# Altium footprint library top_pcblib.PcbLib: 29 footprints (part 2 of 2)
Each footprint in its own frame and in the unit in brackets; x right, y up, seen from the top. Pads: shape width x height; smd on the part's side, far side on the other; paste and mask are expansions set on the pad; w line width, h text height; cw(c..) or ccw(c..) is an arc to the next point about the centre after c.
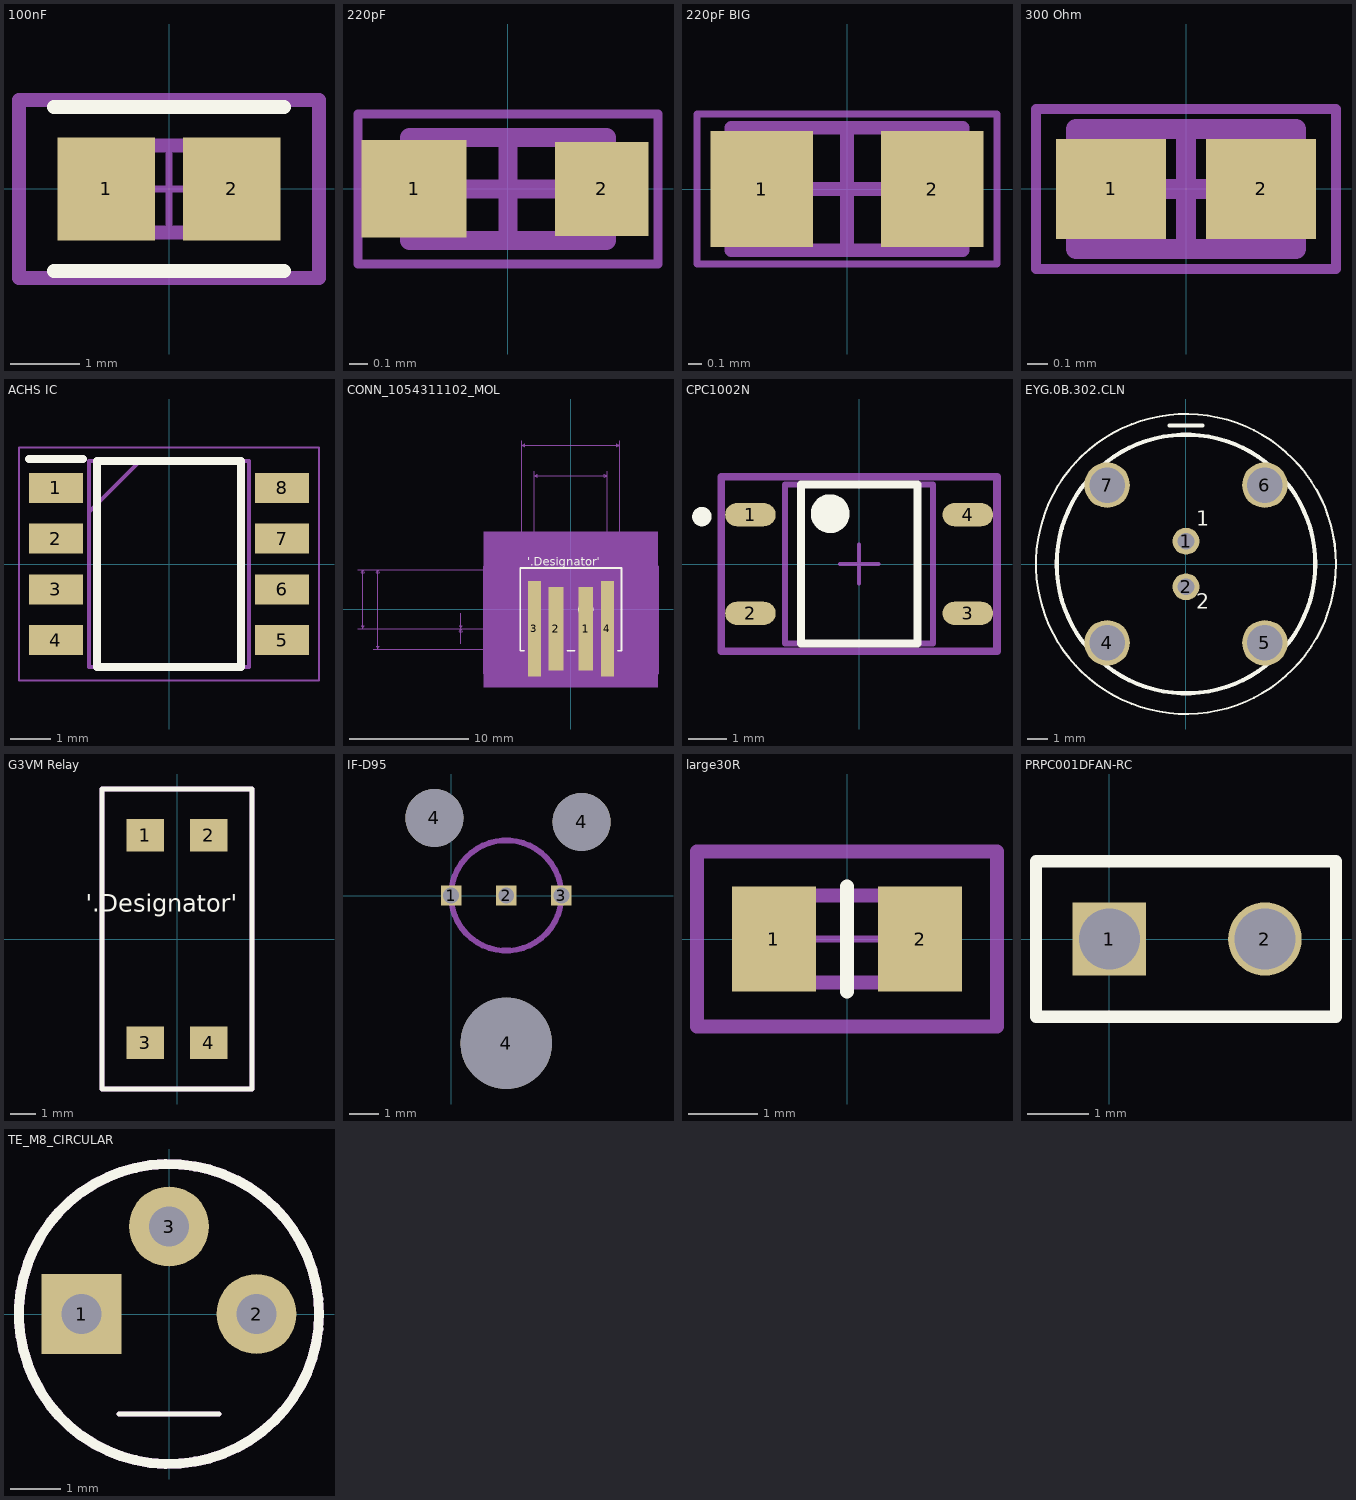
[diagram p1: the footprints below, top view; thin cyan lines are the x and y axes]

## 100nF [mil]
pads (2):
  rect 55x58 smd paste+0 mask+0: 1(-35.46,0) 2(35.46,0)
Top Overlay:
  lines w7.87: -65.08,-46.38 65.08,-46.38 ; -65.08,46.38 65.08,46.38
Mechanical 5:
  lines w7.87: -84.77,-50.32 -84.77,50.32 84.77,50.32 84.77,-50.32 -84.77,-50.32
  text ".Designator" at 0,7.39 h39.37
Mechanical 13:
  lines w7.87: -39.37,-24.61 -39.37,24.61 39.37,24.61 39.37,-24.61 -39.37,-24.61
Mechanical 15:
  lines w7.87: -84.77,-50.32 -84.77,50.32 84.77,50.32 84.77,-50.32 -84.77,-50.32
Mechanical 16:
  lines w3.94: -19.68,0 19.68,0 ; 0,-19.68 0,19.68
3D body "Cap_KEMET_C0805C472J3HAC_eec.STEP": height 10, standoff 0, extent -84.77,-50.32 84.77,50.32

## 220pF [mm]
pads (2):
  rect 0.56x0.52 smd: 1(-0.5,0)
  rect 0.5x0.5 smd: 2(0.5,0)
Mechanical 13:
  lines w0.1: -0.525,-0.275 -0.525,0.275 0.525,0.275 0.525,-0.275 -0.525,-0.275
Mechanical 15:
  lines w0.05: -0.8,-0.4 -0.8,0.4 0.8,0.4 0.8,-0.4 -0.8,-0.4
  lines w0.1: -0.275,0 0.275,0 ; 0,-0.275 0,0.275
3D body: height 0.55, standoff 0, extent -0.275,-0.275 0.275,0.275
3D body: height 0.55, standoff 0, extent -0.525,-0.275 -0.275,0.275
3D body: height 0.55, standoff 0, extent 0.275,-0.275 0.525,0.275

## 220pF BIG [mm]
pads (2):
  rect 0.75x0.85 smd: 1(-0.625,0) 2(0.625,0)
Mechanical 13:
  lines w0.1: -0.85,-0.45 0.85,-0.45 0.85,0.45 -0.85,0.45 -0.85,-0.45
Mechanical 15:
  lines w0.05: -1.1,-0.55 1.1,-0.55 1.1,0.55 -1.1,0.55 -1.1,-0.55
  lines w0.1: -0.45,0 0.45,0 ; 0,-0.45 0,0.45
3D body "CAPC1608X09L.step": height 0.9, standoff 0, extent -0.85,-0.45 0.85,0.45

## 300 Ohm [mm]
pads (2):
  rect 0.55x0.5 smd: 1(-0.375,0) 2(0.375,0)
Mechanical 13:
  lines w0.1: -0.55,-0.3 0.55,-0.3 0.55,0.3 -0.55,0.3 -0.55,-0.3
Mechanical 15:
  lines w0.05: -0.75,-0.4 0.75,-0.4 0.75,0.4 -0.75,0.4 -0.75,-0.4
  lines w0.1: -0.3,0 0.3,0 ; 0,-0.3 0,0.3
3D body: height 0.4, standoff 0, extent 0.3,-0.3 0.55,0.3
3D body: height 0.4, standoff 0, extent -0.55,-0.3 -0.3,0.3
3D body: height 0.4, standoff 0, extent -0.3,-0.3 0.3,0.3

## ACHS IC [mm]
pads (8):
  rect 1.35x0.75 smd: 1(-2.825,1.905) 2(-2.825,0.635) 3(-2.825,-0.635) 4(-2.825,-1.905) 5(2.825,-1.905) 6(2.825,-0.635) 7(2.825,0.635) 8(2.825,1.905)
Top Overlay:
  lines w0.2: -3.5,2.63 -2.15,2.63 ; -1.8,-2.572 -1.8,2.572 1.8,2.572 1.8,-2.572 -1.8,-2.572
Mechanical 13:
  lines w0.1: -2,1.302 -0.73,2.572 ; -2,-2.572 -2,2.572 2,2.572 2,-2.572 -2,-2.572
Mechanical 15:
  lines w0.05: -3.75,-2.917 -3.75,2.917 3.75,2.917 3.75,-2.917 -3.75,-2.917

## CONN_1054311102_MOL [mil]
pads (4):
  rect 49x276 smd paste+0 mask+0: 1(49.21,-63.38) 2(-49.21,-63.38)
  rect 43x315 smd: 3(-120.28,-63.38) 4(120.28,-63.38)
Top Overlay:
  circle w20: c49.21,0 r15
  lines w6: -154.88,-136.5 -167,-136.5 -167,136.5 167,136.5 167,-136.5 154.88,-136.5 ; -11.61,-136.5 11.61,-136.5
  text "'.Designator'" at -143.7,145.01 h27.56
Bottom Overlay:
  circle w20: c49.21,0 r15
Mechanical 5:
  region: -287,256.5 287,256.5 287,-256.5 -287,-256.5
Mechanical 7:
  lines w1: -702.78,-63.38 0,-63.38 -377.78,-63.38 120.28,-63.38 120.28,456.5 ; -702.78,131.5 -162,131.5 ; -652.78,-131.5 -162,-131.5 ; -652.78,131.5 -162,131.5 ; -362.78,-113.38 -362.78,-63.38 ; -362.78,-13.38 -362.78,-63.38 ; -162,556.5 -162,131.5 ; -120.28,-63.38 -120.28,456.5 ; -99.21,216.5 -49.21,216.5 ; -49.21,-63.38 -49.21,231.5 ; 49.21,231.5 49.21,-63.38 ; 99.21,216.5 49.21,216.5 ; 162,131.5 162,556.5 ; 262,-113.38 262,-63.38 ; 262,-13.38 262,-63.38 ; -687.78,-63.38 -682.78,-53.38 -692.78,-53.38 -687.78,-63.38 ; -687.78,-63.38 -687.78,131.5 ; -687.78,131.5 -682.78,121.5 -692.78,121.5 -687.78,131.5 ; -637.78,-131.5 -632.78,-121.5 -642.78,-121.5 -637.78,-131.5 ; -637.78,-131.5 -637.78,131.5 ; -637.78,131.5 -632.78,121.5 -642.78,121.5 -637.78,131.5 ; -362.78,-63.38 -357.78,-73.38 -367.78,-73.38 -362.78,-63.38 ; -362.78,-63.38 -357.78,-53.38 -367.78,-53.38 -362.78,-63.38 ; -162,541.5 -152,536.5 -152,546.5 -162,541.5 ; -162,541.5 162,541.5 ; -120.28,441.5 -110.28,436.5 -110.28,446.5 -120.28,441.5 ; -120.28,441.5 120.28,441.5 ; -49.21,216.5 -59.21,211.5 -59.21,221.5 -49.21,216.5 ; 49.21,-63.38 277,-63.38 49.21,-63.38 ; 49.21,216.5 59.21,211.5 59.21,221.5 49.21,216.5 ; 120.28,441.5 110.28,436.5 110.28,446.5 120.28,441.5 ; 162,541.5 152,536.5 152,546.5 162,541.5 ; 262,-63.38 267,-73.38 257,-73.38 262,-63.38 ; 262,-63.38 267,-53.38 257,-53.38 262,-63.38
  text "0.263in/6.68mm" at -832.78,-12.5 h25
  text "0.195in/4.95mm" at -882.78,21.56 h25
  text "0in/0mm" at -470.28,-75.88 h25
  text "0in/0mm" at 282,-75.88 h25
  text "0.324in/8.23mm" at -87.5,561.5 h25
  text "0.241in/6.11mm" at -87.5,461.5 h25
  text "0.098in/2.5mm" at -7.43,236.5 h25
  text "Alt Padstyle 2: b229_152h76" at -337.5,-886.38 h50
  text "Alt Padstyle 1: b152_229h76" at -337.5,-811.38 h50
  text "Right Mtg Padstyle: c152h76" at -337.5,-736.38 h50
  text "Left Mtg Padstyle: c152h76" at -325,-661.38 h50
  text "3rd Mtg Padstyle: c178h178" at -325,-586.38 h50
  text "2nd Mtg Padstyle: c178h178" at -325,-511.38 h50
  text "1st Mtg Padstyle: r800_109" at -325,-436.38 h50
  text "Default Padstyle: r124_701" at -325,-361.38 h50
Mechanical 13:
  circle w20: c49.21,11.62 r15
  lines w1: -162,-131.5 -162,131.5 162,131.5 162,-131.5 -162,-131.5
Mechanical 15:
  region: 287.78,141.5 -287.78,141.5 -287.78,-211.38 287.78,-211.38
  lines w6: -287.78,-211.38 287.78,-211.38 287.78,141.5 -287.78,141.5 -287.78,-211.38
Mechanical 29:
  text "'.Designator'" at -143.7,145.01 h27.56
3D body: height 10, standoff 0, extent 0,0 10,10
3D body "1054311102.stp": height 439.87, standoff 0.5, extent -162.01,-253.54 162.01,71.28

## CPC1002N [mm] "Solid-State Relay"
pads (4):
  oval 1.3x0.6 smd paste+0 mask+0: 1(-2.8,1.27) 2(-2.8,-1.27) 3(2.8,-1.27) 4(2.8,1.27)
Top Overlay:
  circle w0.25: c-4.05,1.22 r0.125
  circle w0.5: c-0.746,1.295 r0.25
  lines w0.2: -1.5,-2.044 -1.5,2.044 1.5,2.044 1.5,-2.044 -1.5,-2.044
Mechanical 10:
  lines w0.2: -3.55,-2.246 -3.55,2.246 3.55,2.246 3.55,-2.246 -3.55,-2.246
  text ".Designator" at 0,0 h1
Mechanical 12:
  lines w0.15: -1.905,-2.044 -1.905,2.044 1.905,2.044 1.905,-2.044 -1.905,-2.044
Mechanical 15:
  lines w0.1: -0.5,0 0.5,0 ; 0,-0.5 0,0.5
  lines w0.2: -3.55,-2.246 -3.55,2.246 3.55,2.246 3.55,-2.246 -3.55,-2.246
3D body "3dmodel.step": height 0.25, standoff 0, extent -3.55,-2.246 3.55,2.246

## EYG.0B.302.CLN [mil] "Socket, Female, Body 9mm dia. Height 15 mm, Through hole"
pads (6):
  round 51.18 hole 31.5: 1(0.01,43.32) 2(0.01,-43.3)
  round 86.61 hole 66.93: 4(-149.99,-149.99) 5(150.01,-149.99) 6(150.01,150.01) 7(-149.99,150.01)
Top Overlay:
  circle w3.94: c0.01,0.01 r285.43
  circle w7.87: c0.01,0.01 r246.06
  lines w7.87: -31.49,263.79 31.51,263.79
  text "2" at 19.7,-94.48 h48.83
  text "1" at 19.7,63 h48.83
3D body "EYG.0B.306.CLN.stp": height 642.27, standoff -64.54, extent -245.93,-246.06 245.94,246.07

## G3VM Relay [mm]
pads (4):
  rect 1.5x1.3 smd: 1(-1.27,4.15) 2(1.27,4.15) 3(-1.27,-4.15) 4(1.27,-4.15)
Top Overlay:
  lines w0.2: -3,-6 -3,6 3,6 3,-6 -3,-6
  text "'.Designator'" at -3.65,1.083 h0.7
Mechanical 29:
  lines w0.2: -3,-6 -3,6 3,6 3,-6 -3,-6
  text "'.Designator'" at -3.65,1.083 h0.7
3D body "G3VM_101AR.step": height 6.96, standoff 0.01, extent -2.31,-4.05 2.27,4.05

## IF-D95 [mm]
pads (6):
  rect 0.7x0.7 hole 0.55 square: 1(0,0) 2(1.9,0) 3(3.8,0)
  round 2 hole 2: 4(-0.58,2.675) 4(4.5,2.54)
  round 3.15 hole 3.15: 4(1.9,-5.1)
Mechanical 1:
  circle w0.2: c1.9,0 r1.905
3D body "Detector.stp": height 11.3, standoff -9.45, extent -2.418,-8.301 6.218,19.442

## large30R [mil]
pads (2):
  rect 47.5x59.38 smd paste+0 mask+0: 1(-41.37,0) 2(41.37,0)
Top Overlay:
  lines w7.87: 0,-29.69 0,29.69
Mechanical 5:
  lines w7.87: -84.81,-49.37 -84.81,49.37 84.81,49.37 84.81,-49.37 -84.81,-49.37
  text ".Designator" at 0,-0.02 h39.37
Mechanical 13:
  lines w7.87: -39.37,-24.61 -39.37,24.61 39.37,24.61 39.37,-24.61 -39.37,-24.61
Mechanical 15:
  lines w7.87: -84.81,-49.37 -84.81,49.37 84.81,49.37 84.81,-49.37 -84.81,-49.37
Mechanical 16:
  lines w3.94: -19.68,0 19.68,0 ; 0,-19.68 0,19.68
3D body "Res_Vishay_CRCW080530R0FKEA_eec.STEP": height 10, standoff 0, extent -84.81,-49.37 84.81,49.37

## PRPC001DFAN-RC [mm]
pads (2):
  rect 1.2x1.2 hole 1: 1(0,0)
  round 1.2 hole 1: 2(2.54,0)
Top Overlay:
  lines w0.2: 0.635,1.27 3.7,1.27 3.7,-1.27 -1.2,-1.27 -1.2,1.27 1.905,1.27
3D body "PRPC001DFAN-RC.STEP": height 10.17, standoff -3.44, extent -1.29,-1.27 3.79,1.27

## TE_M8_CIRCULAR [mm]
pads (3):
  rect 1.6x1.6 hole 0.8: 1(-1.75,0)
  round 1.6 hole 0.8: 2(1.75,0) 3(0,1.75)
Top Overlay:
  circle w0.2: c0,0 r3
  lines w0.1: -1,-2 1,-2
Mechanical 29:
  circle w0.2: c0,0 r3
  lines w0.1: -1,-2 1,-2
3D body "c-t4043014031-000-a-3d.stp": height 18.01, standoff -2.99, extent -5.1,-5.695 5.1,5.695